# Altium schematic symbol library Arduino.SchLib: 5 symbols
Pins are listed as number, name and electrical type; pins without a type are passive.

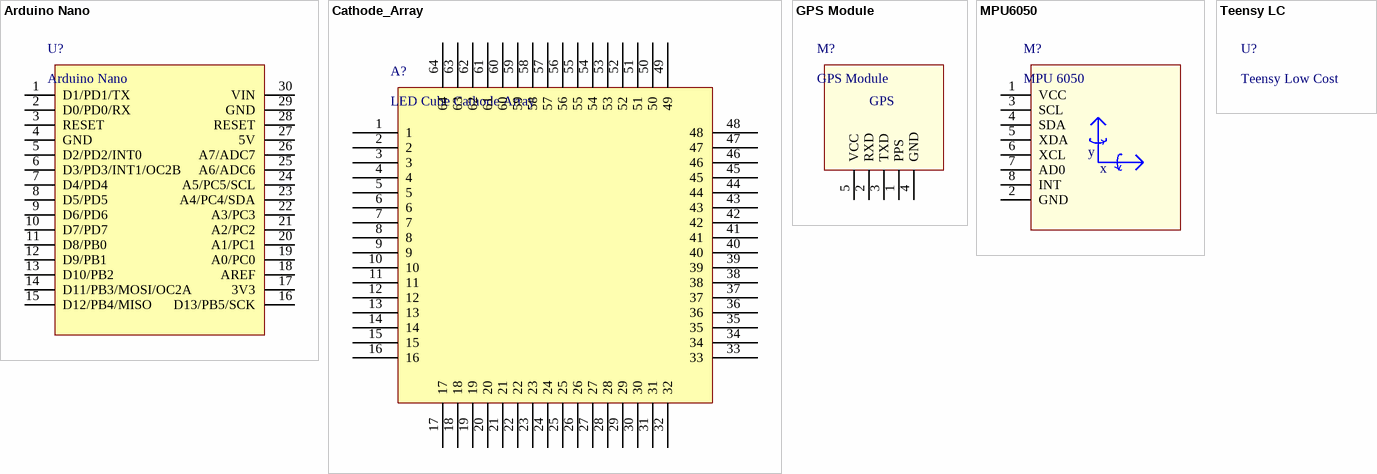
[diagram p0: symbols Arduino Nano to Teensy LC]

## Arduino Nano
designator U?
pins: 1 D1/PD1/TX, 2 D0/PD0/RX, 3 RESET, 4 GND, 5 D2/PD2/INT0, 6 D3/PD3/INT1/OC2B, 7 D4/PD4, 8 D5/PD5, 9 D6/PD6, 10 D7/PD7, 11 D8/PB0, 12 D9/PB1, 13 D10/PB2, 14 D11/PB3/MOSI/OC2A, 15 D12/PB4/MISO, 16 D13/PB5/SCK, 17 3V3, 18 AREF, 19 A0/PC0, 20 A1/PC1, 21 A2/PC2, 22 A3/PC3, 23 A4/PC4/SDA, 24 A5/PC5/SCL, 25 A6/ADC6, 26 A7/ADC7, 27 5V, 28 RESET, 29 GND, 30 VIN

## Cathode_Array
designator A?, comment LED Cube Cathode Array
pins: 1, 2, 3, 4, 5, 6, 7, 8, 9, 10, 11, 12, 13, 14, 15, 16, 17, 18, 19, 20, 21, 22, 23, 24, 25, 26, 27, 28, 29, 30, 31, 32, 33, 34, 35, 36, 37, 38, 39, 40, 41, 42, 43, 44, 45, 46, 47, 48, 49, 50, 51, 52, 53, 54, 55, 56, 57, 58, 59, 60, 61, 62, 63, 64

## GPS Module
designator M?
pins: 1 PPS, 2 RXD, 3 TXD, 4 GND, 5 VCC
text: GPS

## MPU6050
designator M?, comment MPU 6050
pins: 1 VCC, 2 GND, 3 SCL, 4 SDA, 5 XDA, 6 XCL, 7 AD0, 8 INT
text: y; x

## Teensy LC
designator U?, comment Teensy Low Cost